# Altium footprint library BusAdaptor.PcbLib: 25 footprints (part 1 of 2)
Each footprint in its own frame and in the unit in brackets; x right, y up, seen from the top. Pads: shape width x height; smd on the part's side, far side on the other; paste and mask are expansions set on the pad; w line width, h text height; cw(c..) or ccw(c..) is an arc to the next point about the centre after c.
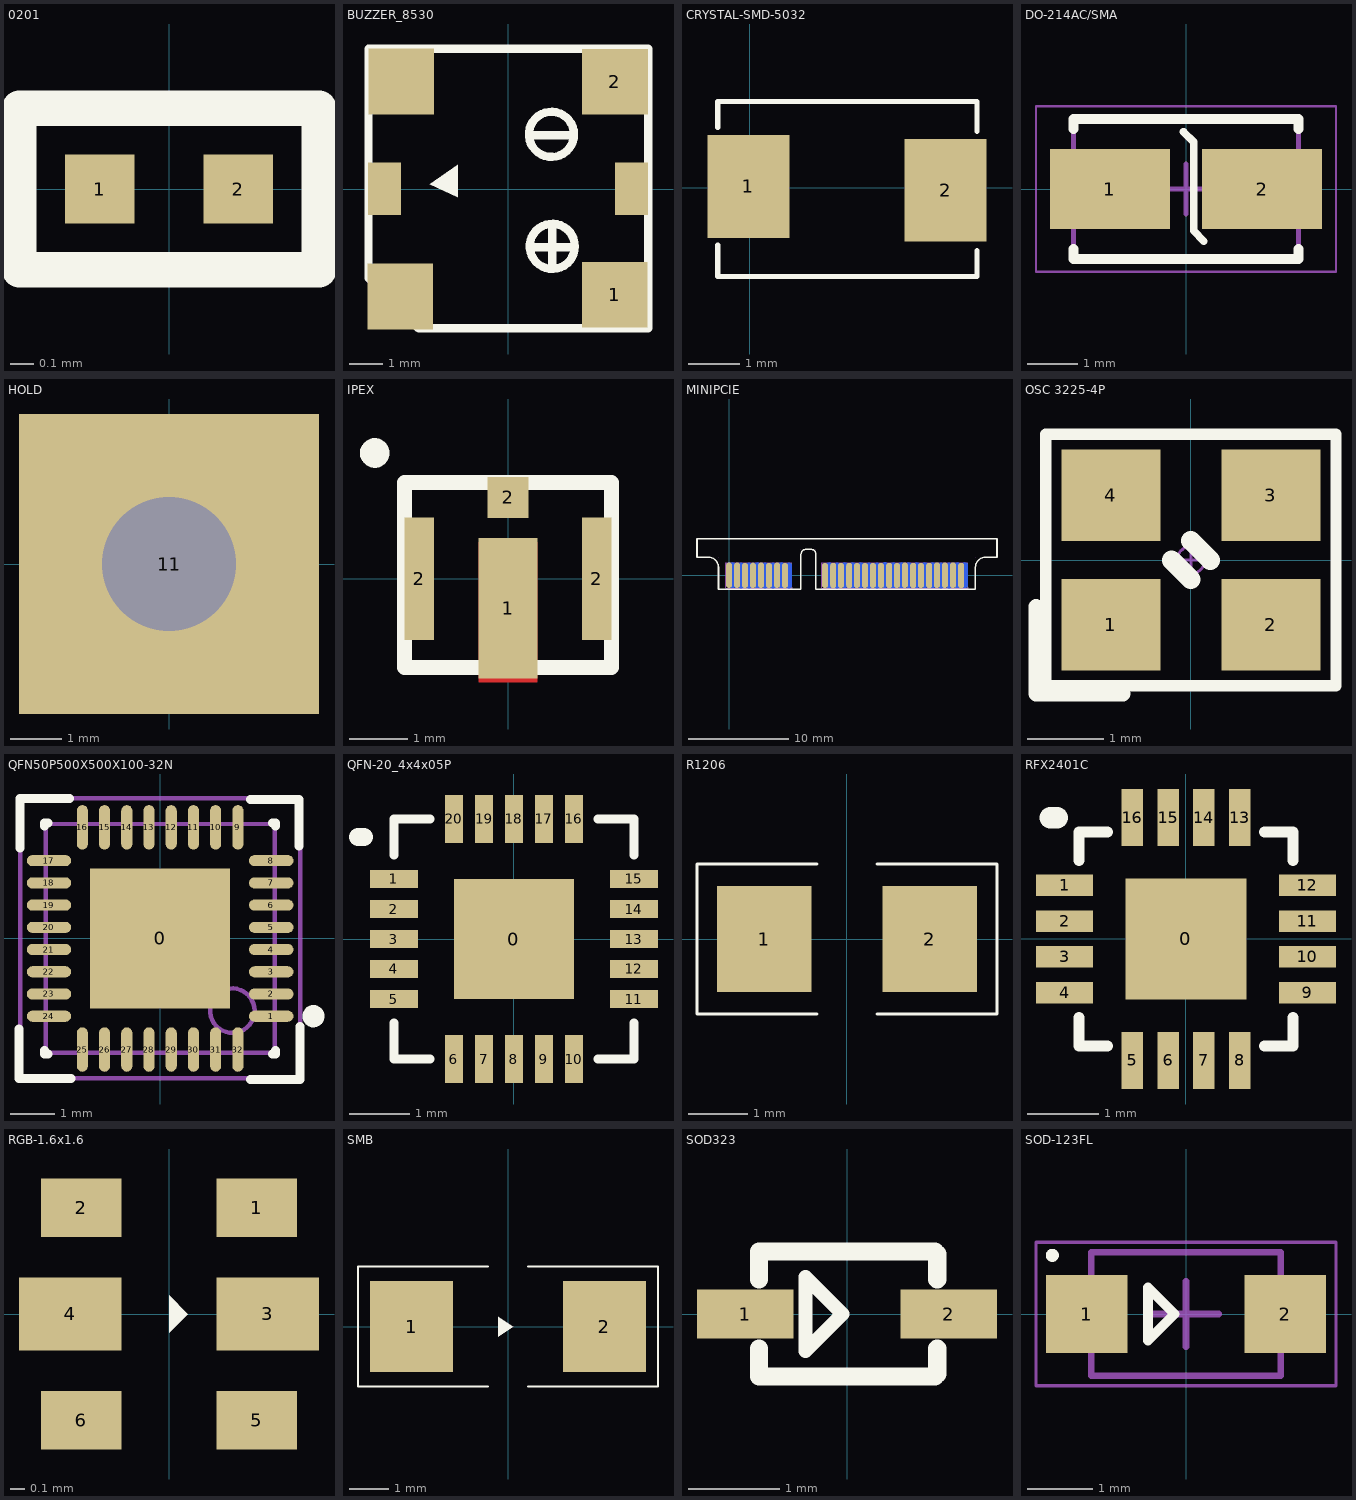
[diagram p0: the footprints below, top view; thin cyan lines are the x and y axes]

## 0201 [mm]
pads (2):
  rect 0.3x0.3 smd: 1(-0.3,0) 2(0.3,0)
Top Overlay:
  lines w0.152: -0.65,-0.35 -0.65,0.35 0.65,0.35 0.65,-0.35 -0.65,-0.35
3D body "R 0201.STEP": height 0.23, standoff 0, extent -0.3,-0.15 0.3,0.15

## BUZZER_8530 [mm]
pads (6):
  rect 2x2 smd: 1(3.242,-3.217) 2(3.251,3.26) ""(-3.277,-3.267) ""(-3.242,3.267)
  rect 1x1.6 smd: ""(-3.759,0.009) ""(3.759,0.009)
Top Overlay:
  circle w0.254: c1.346,-1.743 r0.686
  circle w0.254: c1.321,1.66 r0.686
  region: -2.38,0.144 -1.524,0.743 -1.524,-0.255
  lines w0.254: 0.686,-1.769 2.032,-1.769 ; 0.806,1.635 2.007,1.635 ; 1.346,-2.429 1.346,-1.083 ; -4.242,-2.709 -2.718,-4.233 4.258,-4.233 4.258,4.267 -4.242,4.267 -4.242,-2.709
3D body "User Library-MLT-8530.STEP": height 3, standoff 0, extent -4.377,-4.377 4.123,4.123

## CRYSTAL-SMD-5032 [mm]
pads (2):
  rect 1.6x2 smd: 1(-0.025,0.025) 2(3.81,-0.051)
Top Overlay:
  lines w0.1: -0.622,-1.118 -0.622,-1.727 4.42,-1.727 4.42,-1.219 ; -0.622,1.168 -0.622,1.676 4.42,1.676 4.42,1.092
3D body "User Library-445-CRYTAL-SMD.STEP": height 1.35, standoff 0, extent -0.62,-1.625 4.38,1.575

## DO-214AC/SMA [mm] "SS54"
height 2.42
pads (2):
  rect 2.4x1.6 smd: 1(-1.525,0) 2(1.525,0)
Top Overlay:
  lines w0.152: -0.051,1.143 0.152,0.94 0.152,-0.838 0.356,-1.041
  lines w0.2: -2.25,-1.2 -2.25,-1.4 2.25,-1.4 2.25,-1.2 ; -2.25,1.2 -2.25,1.4 2.25,1.4 2.25,1.2
Top Assembly:
  lines w0.1: -2.25,-1.4 -2.25,1.4 2.25,1.4 2.25,-1.4 -2.25,-1.4
Top Courtyard:
  lines w0.05: -3,-1.65 -3,1.65 3,1.65 3,-1.65 -3,-1.65
  lines w0.1: -0.5,0 0.5,0 ; 0,-0.5 0,0.5
3D body: height 2.42, standoff 0, extent -2.25,-1.4 2.25,1.4

## HOLD [mm]
pads (1):
  rect 5.8x5.8 hole 2.6: 11(0,0)

## IPEX [mm]
pads (4):
  rect 1.016x2.413 smd: 1(0,-0.508)
  rect 0.5x2.1 smd: 2(-1.524,0) 2(1.524,0)
  rect 0.7x0.7 smd: 2(0,1.397)
Top Layer:
  rectangle: -0.508,-1.778 0.508,0.635
Top Overlay:
  circle w0.254: c-2.286,2.159 r0.127
  lines w0.254: -1.778,-1.524 -1.778,1.651 1.778,1.651 1.778,-1.524 0.635,-1.524 -0.635,-1.524 -1.778,-1.524
3D body "User Library-IPEX.STEP": height 1.25, standoff -0.01, extent -1.526,-1.399 1.474,1.701
3D body: height 0.25, standoff 0, extent 0.762,1.016 0.762,1.016
3D body: height 0.25, standoff 0, extent 0.762,1.016 0.762,1.016

## MINIPCIE [mm] "30mm*50.95mm*1mm"
pads (52):
  oval 0.6x2.55 smd: 1(0,0) 3(0.8,0) 5(1.593,-0.029) 7(2.395,-0.021) 9(3.2,0) 11(3.993,-0.029) 13(4.8,0) 15(5.593,-0.029) 17(9.593,-0.029) 19(10.418,-0.029) 21(11.193,-0.029) 23(12.018,-0.029) 25(12.793,-0.029) 27(13.593,-0.029) 29(14.393,-0.029) 31(15.193,-0.029) 33(16.018,-0.029) 35(16.793,-0.029) 37(17.586,0) 39(18.418,-0.029) 41(19.193,-0.029) 43(20.018,-0.029) 45(20.8,0) 47(21.586,0) 49(22.4,0) 51(23.218,-0.029)
  oval 0.6x2.55 smd far side: 2(0.386,0) 4(1.193,-0.029) 6(1.993,-0.029) 8(2.8,0) 10(3.593,-0.029) 12(4.393,-0.029) 14(5.2,0) 16(5.993,-0.029) 18(10.015,0) 20(10.793,-0.029) 22(11.586,0) 24(12.386,0) 26(13.186,0) 28(13.993,-0.029) 30(14.793,-0.029) 32(15.603,0.013) 34(16.4,0) 36(17.2,0) 38(17.986,0) 40(18.786,0) 42(19.586,0) 44(20.386,0) 46(21.191,-0.038) 48(21.993,-0.029) 50(22.8,0) 52(23.586,0)
Top Overlay:
  lines w0.152: -3.207,1.796 -2.057,1.796 cw(c-2.057,0.796) -1.057,0.796 -1.057,-1.404 7.193,-1.404 7.193,2.096 cw(c7.693,2.096) 7.693,2.596 8.193,2.596 cw(c8.193,2.096) 8.693,2.096 8.693,-1.404 24.643,-1.404 24.643,0.796 cw(c25.643,0.796) 25.643,1.796 26.797,1.796 26.797,3.651 -3.207,3.651 -3.207,1.796
Mechanical 1:
  drawing of 174 lines, arcs and shapes, not listed
Mechanical 7:
  drawing of 179 lines, arcs and shapes, not listed

## OSC 3225-4P [mm] "3.2*2.5*0.7mm(长宽高)                         淘宝ID:黄晶宝石"
pads (4):
  rect 1.3x1.2 smd: 1(-1.05,-0.85) 2(1.05,-0.85) 3(1.05,0.85) 4(-1.05,0.85)
Top Overlay:
  lines w0.15: -1.905,-1.651 1.905,-1.651 1.905,1.651 -1.905,1.651 -1.905,-1.651
  lines w0.2: -2.032,-1.753 -0.889,-1.753 ; -2.032,-1.727 -2.032,-0.61
  lines w0.254: -0.254,0 0,-0.254 ; 0,0.254 0.254,0
Mechanical 15:
  circle w0.04: c0,0 r0.18
  lines w0.04: -0.254,0 0.254,0 ; 0,-0.254 0,0.254
3D body "OSC 3225-4.STEP": height 0.7, standoff -0.02, extent -1.6,-1.25 1.6,1.25

## QFN50P500X500X100-32N [mm]
pads (33):
  rect 3.15x3.15 smd: 0(0,0)
  oval 1x0.25 smd: 1(2.5,-1.75) 2(2.5,-1.25) 3(2.5,-0.75) 4(2.5,-0.25) 5(2.5,0.25) 6(2.5,0.75) 7(2.5,1.25) 8(2.5,1.75) 17(-2.5,1.75) 18(-2.5,1.25) 19(-2.5,0.75) 20(-2.5,0.25) 21(-2.5,-0.25) 22(-2.5,-0.75) 23(-2.5,-1.25) 24(-2.5,-1.75)
  oval 0.25x1 smd: 9(1.75,2.5) 10(1.25,2.5) 11(0.75,2.5) 12(0.25,2.5) 13(-0.25,2.5) 14(-0.75,2.5) 15(-1.25,2.5) 16(-1.75,2.5) 25(-1.75,-2.5) 26(-1.25,-2.5) 27(-0.75,-2.5) 28(-0.25,-2.5) 29(0.25,-2.5) 30(0.75,-2.5) 31(1.25,-2.5) 32(1.75,-2.5)
Top Overlay:
  circle w0.25: c3.45,-1.75 r0.125
  lines w0.2: -3.175,-2.032 -3.175,-3.15 -2.007,-3.15 ; -3.15,2.032 -3.15,3.15 -2.032,3.15 ; -2.6,-2.525 -2.6,-2.6 -2.525,-2.6 ; -2.6,2.525 -2.6,2.6 -2.525,2.6 ; 2.032,-3.175 3.15,-3.175 3.15,-1.981 ; 2.032,3.124 3.124,3.124 3.124,2.083 ; 2.525,-2.6 2.6,-2.6 2.6,-2.525 ; 2.525,2.6 2.6,2.6 2.6,2.525
Mechanical 13:
  circle w0.1: c1.625,-1.625 r0.5
  lines w0.1: -2.575,-2.575 -2.575,2.575 2.575,2.575 2.575,-2.575 -2.575,-2.575
Mechanical 15:
  lines w0.1: -0.5,0 0.5,0 ; 0,-0.5 0,0.5 ; -3.15,-3.15 -3.15,3.15 3.15,3.15 3.15,-3.15 -3.15,-3.15
3D body "User Library-qfn32-5x5__ _________.STEP": height 0.8, standoff 0, extent -2.501,-2.51 2.519,2.51

## QFN-20_4x4x05P [mm]
pads (21):
  rect 2x2 smd: 0(0,0)
  rect 0.8x0.3 smd: 1(-2,1) 2(-2,0.5) 3(-2,0) 4(-2,-0.5) 5(-2,-1) 11(2,-1) 12(2,-0.5) 13(2,0) 14(2,0.5) 15(2,1)
  rect 0.3x0.8 smd: 6(-1,-2) 7(-0.5,-2) 8(0,-2) 9(0.5,-2) 10(1,-2) 16(1,2) 17(0.5,2) 18(0,2) 19(-0.5,2) 20(-1,2)
Top Overlay:
  lines w0.152: -2,-1.4 -2,-2 -1.4,-2 ; -2,1.4 -2,2 -1.4,2 ; 1.4,-2 2,-2 2,-1.4 ; 1.4,2 2,2 2,1.4
  lines w0.3: -2.6,1.7 -2.5,1.7
3D body "User Library-QFN20_4x4x0_8.STEP": height 0.78, standoff -0.02, extent -2.01,-2.01 2.01,2.01

## R1206 [mm]
height 1
pads (2):
  rect 1.6x1.8 smd: 1(-1.4,0) 2(1.4,0)
Top Overlay:
  lines w0.051: -0.508,-1.27 -2.54,-1.27 -2.54,1.27 -0.508,1.27 ; 0.508,-1.27 2.54,-1.27 2.54,1.27 0.508,1.27
3D body "R1206封?": height 1, standoff -0.01, extent -1.6,-0.813 1.6,0.797

## RFX2401C [mm]
pads (17):
  rect 1.7x1.7 smd: 0(0,0)
  rect 0.8x0.3 smd: 1(-1.7,0.75) 2(-1.7,0.25) 3(-1.7,-0.25) 4(-1.7,-0.75) 9(1.7,-0.75) 10(1.7,-0.25) 11(1.7,0.25) 12(1.7,0.75)
  rect 0.3x0.8 smd: 5(-0.75,-1.7) 6(-0.25,-1.7) 7(0.25,-1.7) 8(0.75,-1.7) 13(0.75,1.7) 14(0.25,1.7) 15(-0.25,1.7) 16(-0.75,1.7)
Top Overlay:
  lines w0.152: -1.5,-1.1 -1.5,-1.5 -1.1,-1.5 ; -1.5,1.1 -1.5,1.5 -1.1,1.5 ; 1.1,-1.5 1.5,-1.5 1.5,-1.1 ; 1.1,1.5 1.5,1.5 1.5,1.1
  lines w0.3: -1.9,1.7 -1.8,1.7
3D body "ALSRobot-QFN16 3x3.STEP": height 0.9, standoff 0, extent -1.521,-1.518 1.521,1.524
3D body: height 0.25, standoff 0, extent 1.016,0.635 1.016,0.635
3D body: height 0.25, standoff 0, extent 1.016,0.635 1.016,0.635

## RGB-1.6x1.6 [mm]
pads (6):
  rect 0.55x0.4 smd: 1(0.6,0.725) 2(-0.6,0.725) 5(0.6,-0.725) 6(-0.6,-0.725)
  rect 0.7x0.5 smd: 3(0.675,0) 4(-0.675,0)
Top Layer:
  region: -0.127,0.762 -0.127,0.889
Top Overlay:
  region: 0,0.127 0,-0.127 0.127,0

## SMB [mm]
height 1
pads (2):
  rect 2.1x2.3 smd: 1(-2.45,0) 2(2.45,0)
Top Layer:
  pour cut-out: 1.524,2.159
  region: -0.254,-0.254 -0.127,-0.254
Top Overlay:
  region: -0.254,0.254 -0.254,-0.254 0.127,0
  lines w0.051: -0.508,-1.524 -3.81,-1.524 -3.81,1.524 -0.508,1.524 ; 0.508,-1.524 3.81,-1.524 3.81,1.524 0.508,1.524
3D body "SMBJ30A.stp": height 2.61, standoff 0, extent -2.7,-1.81 2.7,1.81

## SOD323 [mm]
pads (2):
  rect 1.06x0.54 smd: 1(-1.118,0) 2(1.118,0)
Top Overlay:
  lines w0.152: -0.457,-0.406 -0.051,0 -0.457,0.406 -0.457,-0.406
  lines w0.2: -0.965,-0.381 -0.965,-0.686 0.965,-0.686 ; -0.965,0.381 -0.965,0.686 0.965,0.686 ; 0.991,-0.66 0.991,-0.381 ; 0.991,0.381 0.991,0.66
3D body "User Library-SOD2513X11.STEP": height 1.1, standoff 0, extent -1.35,-0.615 1.35,0.635

## SOD-123FL [mm] "SODFL, 2-Leads, Body 1.80x3.70mm, IPC Medium Density"
height 1.1
pads (2):
  rect 1.25x1.2 smd: 1(-1.525,0) 2(1.525,0)
Top Overlay:
  circle w0.1: c-2.05,0.9 r0.05
  lines w0.152: -0.584,-0.406 -0.178,0 -0.584,0.406 -0.584,-0.406
Top Assembly:
  lines w0.1: -1.45,-0.95 1.45,-0.95 1.45,0.95 -1.45,0.95 -1.45,-0.95
Top Courtyard:
  lines w0.05: -2.3,-1.1 2.3,-1.1 2.3,1.1 -2.3,1.1 -2.3,-1.1
  lines w0.1: -0.5,0 0.5,0 ; 0,-0.5 0,0.5
3D body: height 1.1, standoff 0, extent -1.45,-0.95 1.45,0.95